# Altium schematic symbol library VNC1L-1A.Schlib: 1 symbol
Pins are listed as number, name and electrical type; pins without a type are passive.

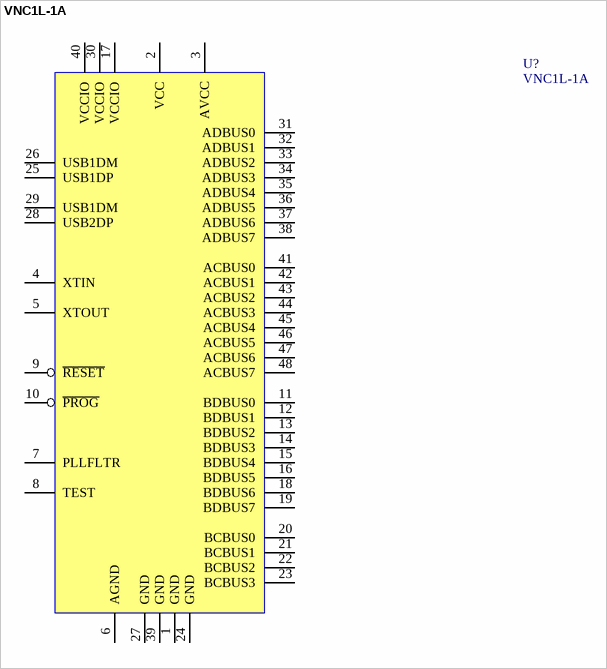
[diagram p0: symbol VNC1L-1A]

## VNC1L-1A
designator U?
IC, Microcontroller; 4 Manufacturer: FTDI; 2 Description: Host/Device Controller, 2 ports; 3 Footprint: LQFP48; 1 Type: IC, USB Controller; 5 Manufacturer P/N: VNC1L-1A; ComponentLink1Description: Manufacturer Link; ComponentLink1URL: http://www.vinculum.com; ComponentLink2Description: Datasheet; ComponentLink2URL: http://www.vinculum.com/documents/datasheets/DS_VNC1L-1A.pdf; ComponentLink3Description: Supplier Link; ComponentLink3URL: http://search.digikey.com/scripts/DkSearch/dksus.dll?Detail?name=768-1000-ND; Cost: $10.90
footprint LQFP48
pins: 1 GND (power), 2 VCC (power), 3 AVCC (power), 4 XTIN, 5 XTOUT, 6 AGND (power), 7 PLLFLTR, 8 TEST, 9 ~{RESET}, 10 ~{PROG}, 11 BDBUS0, 12 BDBUS1, 13 BDBUS2, 14 BDBUS3, 15 BDBUS4, 16 BDBUS5, 17 VCCIO (power), 18 BDBUS6, 19 BDBUS7, 20 BCBUS0, 21 BCBUS1, 22 BCBUS2, 23 BCBUS3, 24 GND (power), 25 USB1DP, 26 USB1DM, 27 GND (power), 28 USB2DP, 29 USB1DM, 30 VCCIO (power), 31 ADBUS0, 32 ADBUS1, 33 ADBUS2, 34 ADBUS3, 35 ADBUS4, 36 ADBUS5, 37 ADBUS6, 38 ADBUS7, 39 GND (power), 40 VCCIO (power), 41 ACBUS0, 42 ACBUS1, 43 ACBUS2, 44 ACBUS3, 45 ACBUS4, 46 ACBUS5, 47 ACBUS6, 48 ACBUS7